# Altium schematic symbol library CMT-8540S-SMT.SchLib: 1 symbol
Pins are listed as number, name and electrical type; pins without a type are passive.

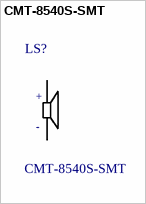
[diagram p0: symbol CMT-8540S-SMT]

## CMT-8540S-SMT
designator LS?
8.5 mm, 5.0 Vo-p, 100 dB, Surface Mount _SMT_, Magnetic Audio Transducer Buzzer; MF: CUI; MP: CMT-8540S-SMT; Availability: Unavailable; SnapEDA_Link: https://www.snapeda.com/parts/CMT-8540S-SMT/CUI/view-part/?ref=snap; Price: None; CUI_purchase_URL: https://www.cui.com/product/audio/buzzers/audio-transducers/magnetic/cmt-8540s-smt?utm_source=snapeda.com&utm_medium=referral&utm_campaign=snapedaBOM; Package: None; Value: *
footprint *CUI_CMT-8540S-SMT_CMT-8540S-SMT(Primary)
pins: N, P
text: +; -